# Altium footprint library PCB_SDR.PcbLib: 49 footprints (part 1 of 4)
Each footprint in its own frame and in the unit in brackets; x right, y up, seen from the top. Pads: shape width x height; smd on the part's side, far side on the other; paste and mask are expansions set on the pad; w line width, h text height; cw(c..) or ccw(c..) is an arc to the next point about the centre after c.
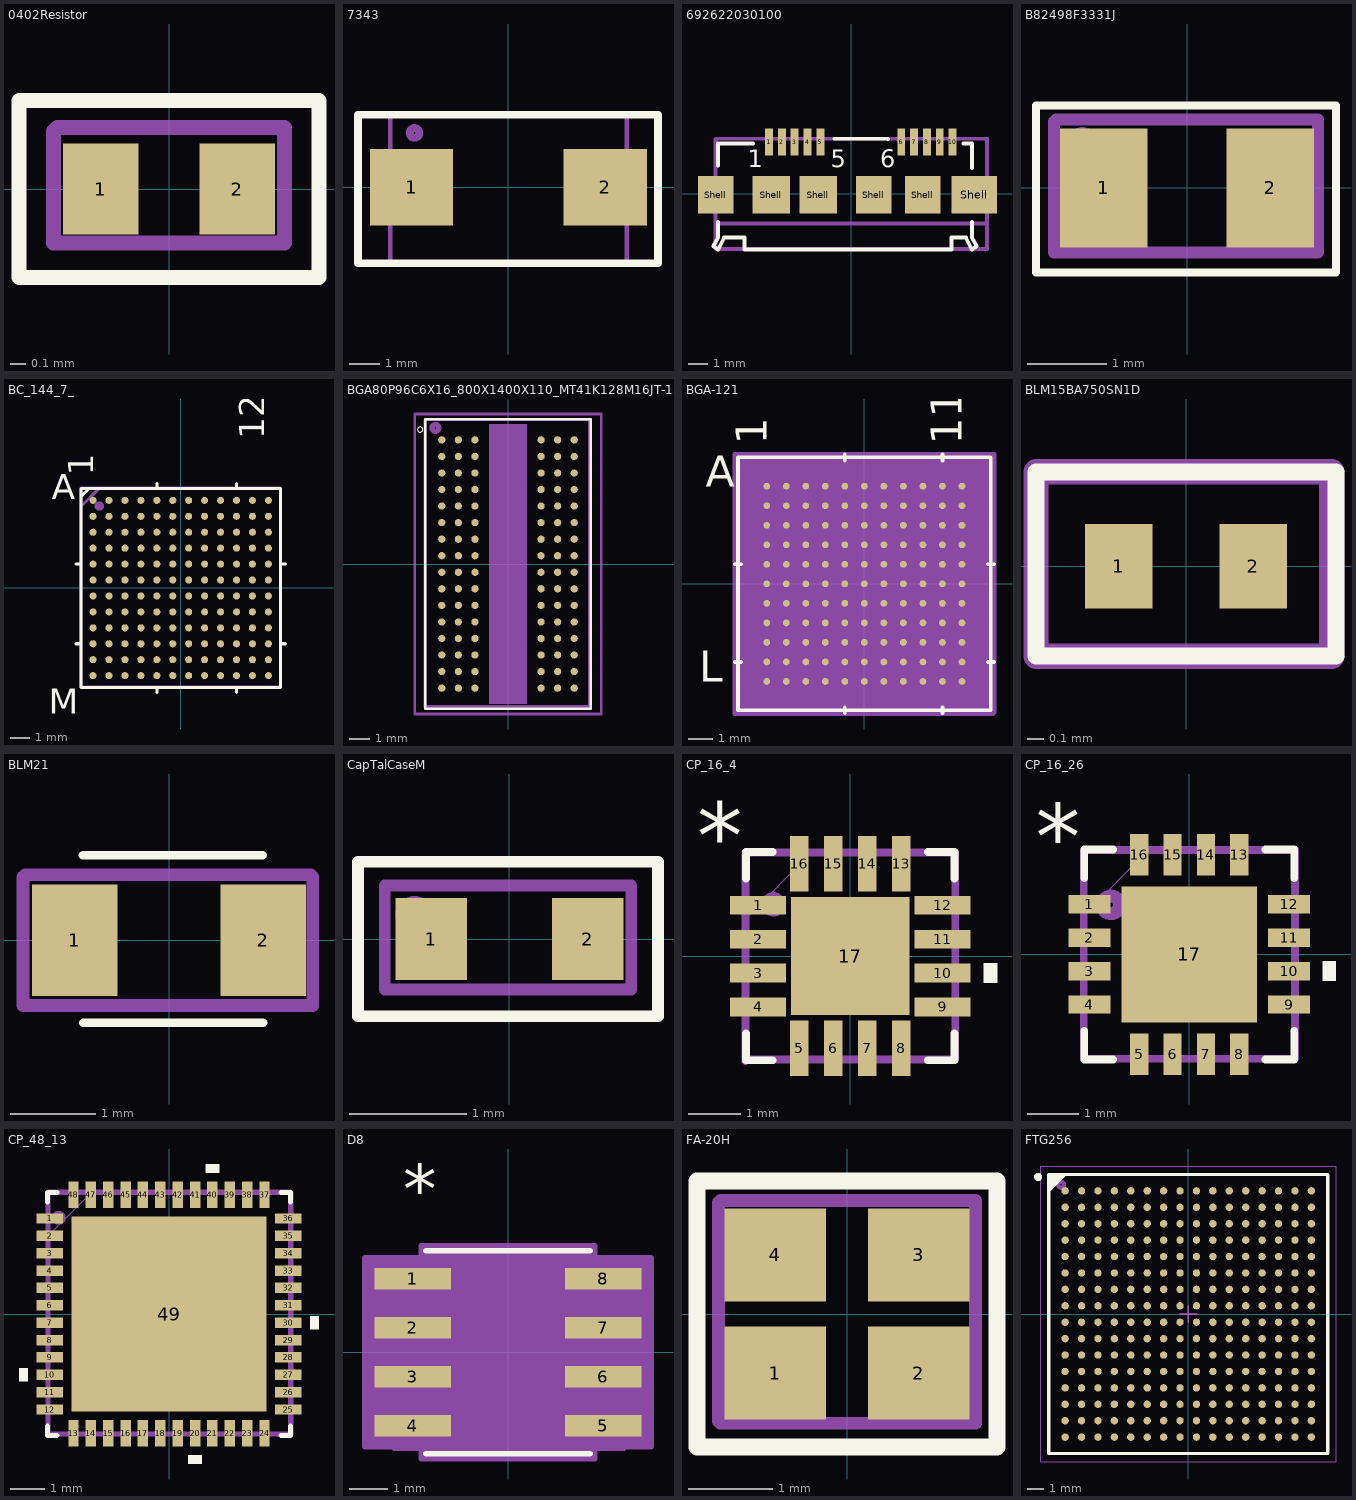
[diagram p0: the footprints below, top view; thin cyan lines are the x and y axes]

## 0402Resistor [mm]
pads (2):
  rect 0.5x0.6 smd: 1(-0.45,0) 2(0.45,0)
Top Overlay:
  lines w0.1: -0.991,-0.584 -0.991,0.584 0.991,0.584 0.991,-0.584 -0.991,-0.584
Mechanical 16:
  lines w0.1: -0.762,-0.356 -0.762,0.381 -0.737,0.406 0.762,0.406 0.762,-0.356 -0.762,-0.356
Mechanical 29:
  text ".Designator" at -0.432,-0.152 h0.51
3D body "User Library-SMD RESISTOR-10402.STEP": height 0.36, standoff 0, extent -0.5,-0.246 0.5,0.254

## 7343 [mm]
pads (2):
  rect 2.77x2.55 smd: 1(-3.22,0) 2(3.22,0)
Top Overlay:
  lines w0.254: -5.004,-2.54 -5.004,2.413 4.978,2.413 4.978,-2.54 -5.004,-2.54
Mechanical 16:
  lines w0.15: -3.937,-2.54 -3.937,2.413 3.937,2.413 3.937,-2.54 -3.937,-2.54
  lines w0.254: -2.971,1.859 ccw(c-3.124,1.803) -2.962,1.791
Mechanical 29:
  text ".Designator" at -2.362,-0.559 h1.02
3D body "T520V337M2R5ATE025.step": height 1.91, standoff 0.01, extent -3.8,-2.314 3.8,2.286

## 692622030100 [mm]
pads (16):
  rect 0.4x1.35 smd: 1(-4.17,2.63) 2(-3.52,2.63) 3(-2.87,2.63) 4(-2.22,2.63) 5(-1.57,2.63) 6(2.53,2.63) 7(3.18,2.63) 8(3.83,2.63) 9(4.48,2.63) 10(5.13,2.63)
  rect 1.8x1.9 smd: Shell(-6.87,-0.045) Shell(1.13,-0.045) Shell(3.63,-0.045)
  rect 1.9x1.9 smd: Shell(-4.07,-0.045) Shell(-1.67,-0.045)
  rect 2.3x1.9 smd: Shell(6.23,-0.045)
Top Overlay:
  lines w0.2: -6.745,-1.422 -6.745,-2.205 -6.995,-2.645 -6.745,-2.805 -6.445,-2.205 -5.405,-2.205 -5.405,-2.805 5.065,-2.805 5.065,-2.205 5.805,-2.205 6.105,-2.805 6.355,-2.645 6.105,-2.205 6.105,-1.422 ; -6.745,1.448 -6.745,2.545 -4.978,2.545 ; -0.864,2.795 1.854,2.794 ; 5.69,2.545 6.105,2.545 6.105,1.321
  text "6" at 1.455,1.345 h0.89
  text "1" at -5.245,1.345 h0.89
  text "5" at -1.045,1.345 h0.89
Mechanical 13:
  lines w0.2: -6.87,-2.795 6.88,-2.795 6.88,2.795 -6.87,2.795 -6.87,-2.795
Mechanical 15:
  lines w0.2: -6.87,-1.495 6.88,-1.495
  text "PCB Edge" at -1.82,-2.308 h0.89
Mechanical 16:
  lines w0.15: -6.909,-2.769 -6.909,2.794 6.909,2.794 6.909,-2.794 -6.883,-2.794
Mechanical 29:
  text ".Designator" at -2.946,-0.356 h1.52
3D body "692622030100.stp": height 2.84, standoff -0.11, extent -6.87,-2.795 6.872,2.807

## B82498F3331J [mm]
pads (2):
  rect 1.1x1.5 smd: 1(-1.05,0) 2(1.05,0)
Top Overlay:
  lines w0.1: -1.905,-1.067 -1.905,1.041 1.88,1.041 1.88,-1.067 -1.905,-1.067
Mechanical 16:
  lines w0.15: -1.676,-0.813 -1.676,0.838 -1.651,0.864 1.651,0.864 1.651,-0.813 -1.676,-0.813
  lines w0.254: -1.27,0.61 ccw(c-1.321,0.584) -1.265,0.595
Mechanical 29:
  text ".Designator" at -0.914,-0.33 h0.76
3D body "IND_EPCOS_B82498F.step": height 1.4, standoff 0, extent -1.156,-0.851 1.156,0.851

## BC_144_7_ [mm]
pads (144):
  round 0.356 smd: A1(-4.4,4.4) A2(-3.6,4.4) A3(-2.8,4.4) A4(-2,4.4) A5(-1.2,4.4) A6(-0.4,4.4) A7(0.4,4.4) A8(1.2,4.4) A9(2,4.4) A10(2.8,4.4) A11(3.6,4.4) A12(4.4,4.4) B1(-4.4,3.6) B2(-3.6,3.6) B3(-2.8,3.6) B4(-2,3.6) B5(-1.2,3.6) B6(-0.4,3.6) B7(0.4,3.6) B8(1.2,3.6) B9(2,3.6) B10(2.8,3.6) B11(3.6,3.6) B12(4.4,3.6) C1(-4.4,2.8) C2(-3.6,2.8) C3(-2.8,2.8) C4(-2,2.8) C5(-1.2,2.8) C6(-0.4,2.8) C7(0.4,2.8) C8(1.2,2.8) C9(2,2.8) C10(2.8,2.8) C11(3.6,2.8) C12(4.4,2.8) D1(-4.4,2) D2(-3.6,2) D3(-2.8,2) D4(-2,2) D5(-1.2,2) D6(-0.4,2) D7(0.4,2) D8(1.2,2) D9(2,2) D10(2.8,2) D11(3.6,2) D12(4.4,2) E1(-4.4,1.2) E2(-3.6,1.2) E3(-2.8,1.2) E4(-2,1.2) E5(-1.2,1.2) E6(-0.4,1.2) E7(0.4,1.2) E8(1.2,1.2) E9(2,1.2) E10(2.8,1.2) E11(3.6,1.2) E12(4.4,1.2) F1(-4.4,0.4) F2(-3.6,0.4) F3(-2.8,0.4) F4(-2,0.4) F5(-1.2,0.4) F6(-0.4,0.4) F7(0.4,0.4) F8(1.2,0.4) F9(2,0.4) F10(2.8,0.4) F11(3.6,0.4) F12(4.4,0.4) G1(-4.4,-0.4) G2(-3.6,-0.4) G3(-2.8,-0.4) G4(-2,-0.4) G5(-1.2,-0.4) G6(-0.4,-0.4) G7(0.4,-0.4) G8(1.2,-0.4) G9(2,-0.4) G10(2.8,-0.4) G11(3.6,-0.4) G12(4.4,-0.4) H1(-4.4,-1.2) H2(-3.6,-1.2) H3(-2.8,-1.2) H4(-2,-1.2) H5(-1.2,-1.2) H6(-0.4,-1.2) H7(0.4,-1.2) H8(1.2,-1.2) H9(2,-1.2) H10(2.8,-1.2) H11(3.6,-1.2) H12(4.4,-1.2) J1(-4.4,-2) J2(-3.6,-2) J3(-2.8,-2) J4(-2,-2) J5(-1.2,-2) J6(-0.4,-2) J7(0.4,-2) J8(1.2,-2) J9(2,-2) J10(2.8,-2) J11(3.6,-2) J12(4.4,-2) K1(-4.4,-2.8) K2(-3.6,-2.8) K3(-2.8,-2.8) K4(-2,-2.8) K5(-1.2,-2.8) K6(-0.4,-2.8) K7(0.4,-2.8) K8(1.2,-2.8) K9(2,-2.8) K10(2.8,-2.8) K11(3.6,-2.8) K12(4.4,-2.8) L1(-4.4,-3.6) L2(-3.6,-3.6) L3(-2.8,-3.6) L4(-2,-3.6) L5(-1.2,-3.6) L6(-0.4,-3.6) L7(0.4,-3.6) L8(1.2,-3.6) L9(2,-3.6) L10(2.8,-3.6) L11(3.6,-3.6) L12(4.4,-3.6) M1(-4.4,-4.4) M2(-3.6,-4.4) M3(-2.8,-4.4) M4(-2,-4.4) M5(-1.2,-4.4) M6(-0.4,-4.4) M7(0.4,-4.4) M8(1.2,-4.4) M9(2,-4.4) M10(2.8,-4.4) M11(3.6,-4.4) M12(4.4,-4.4)
Top Overlay:
  lines w0.152: -5.254,-2.8 -5,-2.8 ; -5.254,1.2 -5,1.2 ; -5,4.6 -4.6,5 ; -1.2,-5.254 -1.2,-5 ; -1.2,5 -1.2,5.254 ; 2.8,-5.254 2.8,-5 ; 2.8,5 2.8,5.254 ; 5,-2.8 5.254,-2.8 ; 5,1.2 5.254,1.2 ; -5,-5 -5,5 5,5 5,-5 -5,-5
  text "12" at 4.186,7.466 h1.27
  text "1" at -4.4,5.635 h1.27
  text "M" at -6.635,-6.326 h1.27
  text "A" at -6.477,4.445 h1.27
Bottom Overlay:
  text "12" at 4.237,4.748 h1.27
  text "1" at -4.4,5.635 h1.27
  text "M" at -5.796,-6.53 h1.27
  text "A" at -5.635,4.4 h1.27
Mechanical 1:
  lines w0: -5,4.6 -4.6,5 ; -5,-5 -5,5 5,5 5,-5 -5,-5
  text "12" at 4.4,5.635 h1.27
  text "1" at -4.4,5.635 h1.27
  text "M" at -6.477,-4.445 h1.27
  text "A" at -6.477,4.445 h1.27
Mechanical 16:
  circle w0.254: c-4.089,4.115 r0.108
  lines w0.15: -5.004,4.039 -5.004,4.089 -4.115,4.978 -4.115,5.029 ; -5.004,-4.978 -5.004,5.029 5.004,5.029 5.004,-4.978 -5.004,-4.978
Mechanical 29:
  text ".Designator" at -2.845,-0.254 h1.02
3D body: height 1, standoff 0, extent -5,-5 5,5

## BGA80P96C6X16_800X1400X110_MT41K128M16JT-125:K_true [mm]
pads (96):
  round 0.35 smd: A1(-3.2,6) A2(-2.4,6) A3(-1.6,6) A7(1.6,6) A8(2.4,6) A9(3.2,6) B1(-3.2,5.2) B2(-2.4,5.2) B3(-1.6,5.2) B7(1.6,5.2) B8(2.4,5.2) B9(3.2,5.2) C1(-3.2,4.4) C2(-2.4,4.4) C3(-1.6,4.4) C7(1.6,4.4) C8(2.4,4.4) C9(3.2,4.4) D1(-3.2,3.6) D2(-2.4,3.6) D3(-1.6,3.6) D7(1.6,3.6) D8(2.4,3.6) D9(3.2,3.6) E1(-3.2,2.8) E2(-2.4,2.8) E3(-1.6,2.8) E7(1.6,2.8) E8(2.4,2.8) E9(3.2,2.8) F1(-3.2,2) F2(-2.4,2) F3(-1.6,2) F7(1.6,2) F8(2.4,2) F9(3.2,2) G1(-3.2,1.2) G2(-2.4,1.2) G3(-1.6,1.2) G7(1.6,1.2) G8(2.4,1.2) G9(3.2,1.2) H1(-3.2,0.4) H2(-2.4,0.4) H3(-1.6,0.4) H7(1.6,0.4) H8(2.4,0.4) H9(3.2,0.4) J1(-3.2,-0.4) J2(-2.4,-0.4) J3(-1.6,-0.4) J7(1.6,-0.4) J8(2.4,-0.4) J9(3.2,-0.4) K1(-3.2,-1.2) K2(-2.4,-1.2) K3(-1.6,-1.2) K7(1.6,-1.2) K8(2.4,-1.2) K9(3.2,-1.2) L1(-3.2,-2) L2(-2.4,-2) L3(-1.6,-2) L7(1.6,-2) L8(2.4,-2) L9(3.2,-2) M1(-3.2,-2.8) M2(-2.4,-2.8) M3(-1.6,-2.8) M7(1.6,-2.8) M8(2.4,-2.8) M9(3.2,-2.8) N1(-3.2,-3.6) N2(-2.4,-3.6) N3(-1.6,-3.6) N7(1.6,-3.6) N8(2.4,-3.6) N9(3.2,-3.6) P1(-3.2,-4.4) P2(-2.4,-4.4) P3(-1.6,-4.4) P7(1.6,-4.4) P8(2.4,-4.4) P9(3.2,-4.4) R1(-3.2,-5.2) R2(-2.4,-5.2) R3(-1.6,-5.2) R7(1.6,-5.2) R8(2.4,-5.2) R9(3.2,-5.2) T1(-3.2,-6) T2(-2.4,-6) T3(-1.6,-6) T7(1.6,-6) T8(2.4,-6) T9(3.2,-6)
Top Overlay:
  circle w0: c-4.25,6.5 r0.127
  lines w0.127: -4,-7 4,-7 4,7 -4,7 -4,-7
Mechanical 1:
  region: -0.9,6.75 0.9,6.75 0.9,-6.75 -0.9,-6.75
  lines w0.127: -4.5,-7.25 4.5,-7.25 4.5,7.25 -4.5,7.25 -4.5,-7.25
Mechanical 16:
  lines w0.15: -4.013,-6.909 -4.013,6.96 ; -3.988,-6.883 3.962,-6.883 ; -3.988,6.985 3.937,6.985 3.937,-6.858
  lines w0.254: -3.348,6.621 ccw(c-3.505,6.579) -3.346,6.547
Mechanical 29:
  text ".Designator" at 2.123,6.156 h1.02
3D body: height 0.77, standoff 0, extent -4.5,-7.25 4.445,7.25

## BGA-121 [mil]
pads (121):
  round 11 smd: A1(-157.48,157.48) A2(-125.98,157.48) A3(-94.49,157.48) A4(-62.99,157.48) A5(-31.5,157.48) A6(0,157.48) A7(31.5,157.48) A8(62.99,157.48) A9(94.49,157.48) A10(125.98,157.48) A11(157.48,157.48) B1(-157.48,125.98) B2(-125.98,125.98) B3(-94.49,125.98) B4(-62.99,125.98) B5(-31.5,125.98) B6(0,125.98) B7(31.5,125.98) B8(62.99,125.98) B9(94.49,125.98) B10(125.98,125.98) B11(157.48,125.98) C1(-157.48,94.49) C2(-125.98,94.49) C3(-94.49,94.49) C4(-62.99,94.49) C5(-31.5,94.49) C6(0,94.49) C7(31.5,94.49) C8(62.99,94.49) C9(94.49,94.49) C10(125.98,94.49) C11(157.48,94.49) D1(-157.48,62.99) D2(-125.98,62.99) D3(-94.49,62.99) D4(-62.99,62.99) D5(-31.5,62.99) D6(0,62.99) D7(31.5,62.99) D8(62.99,62.99) D9(94.49,62.99) D10(125.98,62.99) D11(157.48,62.99) E1(-157.48,31.5) E2(-125.98,31.5) E3(-94.49,31.5) E4(-62.99,31.5) E5(-31.5,31.5) E6(0,31.5) E7(31.5,31.5) E8(62.99,31.5) E9(94.49,31.5) E10(125.98,31.5) E11(157.48,31.5) F1(-157.48,0) F2(-125.98,0) F3(-94.49,0) F4(-62.99,0) F5(-31.5,0) F6(0,0) F7(31.5,0) F8(62.99,0) F9(94.49,0) F10(125.98,0) F11(157.48,0) G1(-157.48,-31.5) G2(-125.98,-31.5) G3(-94.49,-31.5) G4(-62.99,-31.5) G5(-31.5,-31.5) G6(0,-31.5) G7(31.5,-31.5) G8(62.99,-31.5) G9(94.49,-31.5) G10(125.98,-31.5) G11(157.48,-31.5) H1(-157.48,-62.99) H2(-125.98,-62.99) H3(-94.49,-62.99) H4(-62.99,-62.99) H5(-31.5,-62.99) H6(0,-62.99) H7(31.5,-62.99) H8(62.99,-62.99) H9(94.49,-62.99) H10(125.98,-62.99) H11(157.48,-62.99) J1(-157.48,-94.49) J2(-125.98,-94.49) J3(-94.49,-94.49) J4(-62.99,-94.49) J5(-31.5,-94.49) J6(0,-94.49) J7(31.5,-94.49) J8(62.99,-94.49) J9(94.49,-94.49) J10(125.98,-94.49) J11(157.48,-94.49) K1(-157.48,-125.98) K2(-125.98,-125.98) K3(-94.49,-125.98) K4(-62.99,-125.98) K5(-31.5,-125.98) K6(0,-125.98) K7(31.5,-125.98) K8(62.99,-125.98) K9(94.49,-125.98) K10(125.98,-125.98) K11(157.48,-125.98) L1(-157.48,-157.48) L2(-125.98,-157.48) L3(-94.49,-157.48) L4(-62.99,-157.48) L5(-31.5,-157.48) L6(0,-157.48) L7(31.5,-157.48) L8(62.99,-157.48) L9(94.49,-157.48) L10(125.98,-157.48) L11(157.48,-157.48)
Top Overlay:
  lines w6: -209,-125.98 -199,-125.98 ; -209,31.5 -199,31.5 ; -31.5,-209 -31.5,-199 ; -31.5,199 -31.5,209 ; 125.98,-209 125.98,-199 ; 125.98,199 125.98,209 ; 199,-125.98 209,-125.98 ; 199,31.5 209,31.5 ; -204,-204 -204,204 204,204 204,-204 -204,-204
  text "11" at 157.48,224 h50
  text "1" at -157.48,224 h50
  text "L" at -266,-158 h50
  text "A" at -256,157 h50
Bottom Overlay:
  text "11" at 204.96,402.76 h50
  text "1" at -132.04,310.76 h50
  text "L" at -241.04,-213.24 h50
  text "A" at -190.04,277.76 h50
Mechanical 13:
  text "11" at 157.48,224 h50
  text "1" at -157.48,224 h50
  text "L" at -265,-159 h50
  text "A" at -256,159 h50
Mechanical 15:
  region: 209,-209 -209,-209 -209,209 209,209
  lines w6: -209,-209 209,-209 209,209 -209,209 -209,-209
Mechanical 16:
  circle w10: c-185,190 r3.16
  lines w5.91: 208,-210 -210,-210 -210,210 210,210 210,-208
Mechanical 29:
  text ".Designator" at -106,-3 h40
3D body: height 39.37, standoff 0, extent -204,-204 205,204

## BLM15BA750SN1D [mm]
pads (2):
  rect 0.4x0.5 smd: 1(-0.4,0) 2(0.4,0)
Top Overlay:
  lines w0.1: -0.889,-0.533 -0.889,0.559 0.889,0.559 0.889,-0.533 -0.889,-0.533
Mechanical 16:
  lines w0.15: -0.889,-0.533 0.864,-0.533 0.864,0.559 -0.889,0.559 -0.889,-0.533
Mechanical 29:
  text ".Designator" at -0.66,-0.102 h0.51

## BLM21 [mm]
pads (2):
  rect 1x1.3 smd: 1(-1.1,0) 2(1.1,0)
Top Overlay:
  lines w0.1: -1.008,0.991 1.092,0.991 ; -1,-0.965 1.1,-0.965
Mechanical 16:
  lines w0.15: -1.702,0.737 -1.702,-0.762 1.676,-0.762 1.676,0.737 ; -1.676,0.762 1.651,0.762
  lines w0.254: -1.349,0.494 ccw(c-1.372,0.483) -1.346,0.483
Mechanical 29:
  text ".Designator" at -1.118,-0.305 h0.51
3D body "User Library-ind_0805.STEP": height 0.95, standoff 0, extent -1,-0.6 1,0.6

## CapTalCaseM [mm]
pads (2):
  rect 0.61x0.7 smd: 1(-0.67,0) 2(0.67,0)
Top Overlay:
  lines w0.1: -1.295,-0.66 -1.295,0.66 1.27,0.66 1.27,-0.66 -1.295,-0.66
Mechanical 16:
  lines w0.1: -1.067,-0.432 -1.067,0.457 1.041,0.457 1.041,-0.432 -1.067,-0.432
  lines w0.254: -0.777,0.203 cw(c-0.813,0.203) -0.778,0.21
Mechanical 29:
  text ".Designator" at -0.66,-0.178 h0.51
3D body "CAP_298D_M.step": height 0.89, standoff 0, extent -0.851,-0.47 0.851,0.47

## CP_16_4 [mil]
pads (17):
  rect 42x14 smd mask+4: 1(-69.5,38.39) 2(-69.5,12.8) 3(-69.5,-12.8) 4(-69.5,-38.39) 9(69.5,-38.39) 10(69.5,-12.8) 11(69.5,12.8) 12(69.5,38.39)
  rect 14x42 smd mask+4: 5(-38.39,-69.5) 6(-12.8,-69.5) 7(12.8,-69.5) 8(38.39,-69.5) 13(38.39,69.5) 14(12.8,69.5) 15(-12.8,69.5) 16(-38.39,69.5)
  rect 89x89 smd mask-44: 17(0,0)
Top Overlay:
  region: 100.5,-5.3 110.5,-5.3 110.5,-20.3 100.5,-20.3
  lines w6: -78.5,-58.49 -78.5,-78.5 -58.49,-78.5 ; -78.5,58.49 -78.5,78.5 -58.49,78.5 ; 58.49,-78.5 78.5,-78.5 78.5,-58.49 ; 58.49,78.5 78.5,78.5 78.5,58.49
  text "*" at -115.5,66.18 h50
Mechanical 1:
  lines w0: -78.5,28.5 -28.5,78.5 ; -78.5,-78.5 78.5,-78.5 78.5,78.5 -78.5,78.5 -78.5,-78.5 ; -78.5,-45.39 -78.5,-31.39 -78.5,-45.39 ; -78.5,-19.8 -78.5,-5.8 -78.5,-19.8 ; -78.5,5.8 -78.5,19.8 -78.5,5.8 ; -78.5,31.39 -78.5,45.39 -78.5,31.39 ; -45.39,-78.5 -31.39,-78.5 -45.39,-78.5 ; -45.39,78.5 -31.39,78.5 -45.39,78.5 ; -19.8,-78.5 -5.8,-78.5 -19.8,-78.5 ; -19.8,78.5 -5.8,78.5 -19.8,78.5 ; 5.8,-78.5 19.8,-78.5 5.8,-78.5 ; 5.8,78.5 19.8,78.5 5.8,78.5 ; 31.39,-78.5 45.39,-78.5 31.39,-78.5 ; 31.39,78.5 45.39,78.5 31.39,78.5 ; 78.5,-45.39 78.5,-31.39 78.5,-45.39 ; 78.5,-19.8 78.5,-5.8 78.5,-19.8 ; 78.5,5.8 78.5,19.8 78.5,5.8 ; 78.5,31.39 78.5,45.39 78.5,31.39
  text "*" at -115.5,66.18 h50
Mechanical 16:
  lines w5.91: -79,-79 -79,78 79,78 79,-77 ; -78,-78 78,-78
  lines w10: -54,38 cw(c-58,39) -53.91,39.51
Mechanical 29:
  text ".Designator" at -49,-23 h40
3D body: height 31.5, standoff 0, extent -78.5,-78.5 78.5,78.5

## CP_16_26 [mil]
pads (17):
  rect 32x14 smd mask+4: 1(-76.5,38.39) 2(-76.5,12.8) 3(-76.5,-12.8) 4(-76.5,-38.39) 9(76.5,-38.39) 10(76.5,-12.8) 11(76.5,12.8) 12(76.5,38.39)
  rect 14x32 smd mask+4: 5(-38.39,-76.5) 6(-12.8,-76.5) 7(12.8,-76.5) 8(38.39,-76.5) 13(38.39,76.5) 14(12.8,76.5) 15(-12.8,76.5) 16(-38.39,76.5)
  rect 104x104 smd mask-51.5: 17(0,0)
Top Overlay:
  region: 102.5,-5.3 112.5,-5.3 112.5,-20.3 102.5,-20.3
  lines w6: -80.5,-58.49 -80.5,-80.5 -58.49,-80.5 ; -80.5,58.49 -80.5,80.5 -58.49,80.5 ; 58.49,-80.5 80.5,-80.5 80.5,-58.49 ; 58.49,80.5 80.5,80.5 80.5,58.49
  text "*" at -117.5,66.18 h50
Mechanical 1:
  lines w0: -80.5,30.5 -30.5,80.5 ; -80.5,-80.5 -80.5,80.5 80.5,80.5 80.5,-80.5 -80.5,-80.5 ; -80.5,-45.39 -80.5,-31.39 -80.5,-45.39 ; -80.5,-19.8 -80.5,-5.8 -80.5,-19.8 ; -80.5,5.8 -80.5,19.8 -80.5,5.8 ; -80.5,31.39 -80.5,45.39 -80.5,31.39 ; -45.39,-80.5 -31.39,-80.5 -45.39,-80.5 ; -45.39,80.5 -31.39,80.5 -45.39,80.5 ; -19.8,-80.5 -5.8,-80.5 -19.8,-80.5 ; -19.8,80.5 -5.8,80.5 -19.8,80.5 ; 5.8,-80.5 19.8,-80.5 5.8,-80.5 ; 5.8,80.5 19.8,80.5 5.8,80.5 ; 31.39,-80.5 45.39,-80.5 31.39,-80.5 ; 31.39,80.5 45.39,80.5 31.39,80.5 ; 80.5,-45.39 80.5,-31.39 80.5,-45.39 ; 80.5,-19.8 80.5,-5.8 80.5,-19.8 ; 80.5,5.8 80.5,19.8 80.5,5.8 ; 80.5,31.39 80.5,45.39 80.5,31.39
  text "*" at -117.5,66.18 h50
Mechanical 16:
  lines w5.91: -81,79 -81,-80 81,-80 81,80 -80,80
  lines w10: -53.64,40.12 ccw(c-60,38) -53.38,39.1
Mechanical 29:
  text ".Designator" at -54,-18 h40
3D body: height 31.5, standoff 0, extent -80.5,-80.5 80.5,80.5

## CP_48_13 [mm]
pads (49):
  rect 0.755x0.3 smd: 1(-3.433,2.75) 2(-3.433,2.25) 3(-3.433,1.75) 4(-3.433,1.25) 5(-3.433,0.75) 6(-3.433,0.25) 7(-3.433,-0.25) 8(-3.433,-0.75) 9(-3.433,-1.25) 10(-3.433,-1.75) 11(-3.433,-2.25) 12(-3.433,-2.75) 25(3.433,-2.75) 26(3.433,-2.25) 27(3.433,-1.75) 28(3.433,-1.25) 29(3.433,-0.75) 30(3.433,-0.25) 31(3.433,0.25) 32(3.433,0.75) 33(3.433,1.25) 34(3.433,1.75) 35(3.433,2.25) 36(3.433,2.75)
  rect 0.3x0.755 smd: 13(-2.75,-3.433) 14(-2.25,-3.433) 15(-1.75,-3.433) 16(-1.25,-3.433) 17(-0.75,-3.433) 18(-0.25,-3.433) 19(0.25,-3.433) 20(0.75,-3.433) 21(1.25,-3.433) 22(1.75,-3.433) 23(2.25,-3.433) 24(2.75,-3.433) 37(2.75,3.433) 38(2.25,3.433) 39(1.75,3.433) 40(1.25,3.433) 41(0.75,3.433) 42(0.25,3.433) 43(-0.25,3.433) 44(-0.75,3.433) 45(-1.25,3.433) 46(-1.75,3.433) 47(-2.25,3.433) 48(-2.75,3.433)
  rect 5.6x5.6 smd mask-2.781: 49(0,0)
Top Overlay:
  region: -4.064,-1.559 -4.318,-1.559 -4.318,-1.94 -4.064,-1.94
  region: 0.941,-4.064 0.56,-4.064 0.56,-4.318 0.941,-4.318
  region: 4.064,-0.059 4.318,-0.059 4.318,-0.44 4.064,-0.44
  region: 1.441,4.064 1.06,4.064 1.06,4.318 1.441,4.318
  lines w0.152: -3.5,-3.233 -3.5,-3.5 -3.233,-3.5 ; -3.5,3.233 -3.5,3.5 -3.233,3.5 ; 3.233,-3.5 3.5,-3.5 3.5,-3.233 ; 3.233,3.5 3.5,3.5 3.5,3.233
Mechanical 1:
  drawing of 197 lines, arcs and shapes, not listed
  text "*" at -4.445,3.381 h1.27
Mechanical 16:
  lines w0.15: 3.48,3.505 -3.454,3.505 -3.48,3.48 -3.48,-3.454 3.505,-3.454 3.505,3.48
  lines w0.254: -3.105,2.755 cw(c-3.175,2.769) -3.103,2.769
Mechanical 29:
  text ".Designator" at -1.981,-0.432 h1.02
3D body: height 0.8, standoff 0, extent -3.522,-3.5 3.5,3.516

## D8 [mil]
pads (8):
  rect 78x22 smd: 1(-97,75) 2(-97,25) 3(-97,-25) 4(-97,-75) 5(97,-75) 6(97,-25) 7(97,25) 8(97,75)
Top Overlay:
  lines w6: -83.5,-103.5 83.5,-103.5 ; -83.5,103.5 83.5,103.5
  text "*" at -107,142 h50
Mechanical 13:
  lines w0: -12,98.5 ccw(c0,98.5) 12,98.5
Mechanical 15:
  region: -88.5,-96 -146,-96 -146,96 -88.5,96 -88.5,108.5 88.5,108.5 88.5,96 146,96 146,-96 88.5,-96 88.5,-108.5 -88.5,-108.5
  lines w6: -146,-96 -88.5,-96 -88.5,-108.5 88.5,-108.5 88.5,-96 146,-96 146,96 88.5,96 88.5,108.5 -88.5,108.5 -88.5,96 -146,96 -146,-96
Mechanical 16:
  lines w5.91: -116,-98 118,-98 118,96 -115,96 -116,95 -116,-98
  lines w10: -78.36,73.36 cw(c-86,75) -78.19,75
Mechanical 29:
  text ".Designator" at -59,-15 h40
3D body "User Library-SOIC-8-1.STEP": height 68.9, standoff 0, extent -118.1,-96.46 118.12,96.46
3D body: height 10, standoff 0, extent 0,0 10,10

## FA-20H [mm]
pads (4):
  rect 1.2x1.1 smd: 1(-0.85,-0.7) 2(0.85,-0.7) 3(0.85,0.7) 4(-0.85,0.7)
Top Overlay:
  lines w0.2: -1.778,-1.575 -1.778,1.575 1.778,1.575 1.778,-1.575 -1.778,-1.575
Mechanical 16:
  lines w0.15: -1.524,-1.27 -1.499,-1.295 1.524,-1.295 1.524,1.346 -1.499,1.346 -1.524,1.321 -1.524,-1.27
  lines w0.254: -1.151,-0.968 ccw(c-1.219,-0.991) -1.147,-0.991
Mechanical 29:
  text ".Designator" at -0.406,-0.254 h1.02
3D body "User Library-Crystal NDK NX2520SA series.STEP": height 0.55, standoff 0, extent -1.3,-1.05 1.3,1.05

## FTG256 [mm]
pads (256):
  round 0.45 smd: A1(-7.5,7.5) A2(-6.5,7.5) A3(-5.5,7.5) A4(-4.5,7.5) A5(-3.5,7.5) A6(-2.5,7.5) A7(-1.5,7.5) A8(-0.5,7.5) A9(0.5,7.5) A10(1.5,7.5) A11(2.5,7.5) A12(3.5,7.5) A13(4.5,7.5) A14(5.5,7.5) A15(6.5,7.5) A16(7.5,7.5) B1(-7.5,6.5) B2(-6.5,6.5) B3(-5.5,6.5) B4(-4.5,6.5) B5(-3.5,6.5) B6(-2.5,6.5) B7(-1.5,6.5) B8(-0.5,6.5) B9(0.5,6.5) B10(1.5,6.5) B11(2.5,6.5) B12(3.5,6.5) B13(4.5,6.5) B14(5.5,6.5) B15(6.5,6.5) B16(7.5,6.5) C1(-7.5,5.5) C2(-6.5,5.5) C3(-5.5,5.5) C4(-4.5,5.5) C5(-3.5,5.5) C6(-2.5,5.5) C7(-1.5,5.5) C8(-0.5,5.5) C9(0.5,5.5) C10(1.5,5.5) C11(2.5,5.5) C12(3.5,5.5) C13(4.5,5.5) C14(5.5,5.5) C15(6.5,5.5) C16(7.5,5.5) D1(-7.5,4.5) D2(-6.5,4.5) D3(-5.5,4.5) D4(-4.5,4.5) D5(-3.5,4.5) D6(-2.5,4.5) D7(-1.5,4.5) D8(-0.5,4.5) D9(0.5,4.5) D10(1.5,4.5) D11(2.5,4.5) D12(3.5,4.5) D13(4.5,4.5) D14(5.5,4.5) D15(6.5,4.5) D16(7.5,4.5) E1(-7.5,3.5) E2(-6.5,3.5) E3(-5.5,3.5) E4(-4.5,3.5) E5(-3.5,3.5) E6(-2.5,3.5) E7(-1.5,3.5) E8(-0.5,3.5) E9(0.5,3.5) E10(1.5,3.5) E11(2.5,3.5) E12(3.5,3.5) E13(4.5,3.5) E14(5.5,3.5) E15(6.5,3.5) E16(7.5,3.5) F1(-7.5,2.5) F2(-6.5,2.5) F3(-5.5,2.5) F4(-4.5,2.5) F5(-3.5,2.5) F6(-2.5,2.5) F7(-1.5,2.5) F8(-0.5,2.5) F9(0.5,2.5) F10(1.5,2.5) F11(2.5,2.5) F12(3.5,2.5) F13(4.5,2.5) F14(5.5,2.5) F15(6.5,2.5) F16(7.5,2.5) G1(-7.5,1.5) G2(-6.5,1.5) G3(-5.5,1.5) G4(-4.5,1.5) G5(-3.5,1.5) G6(-2.5,1.5) G7(-1.5,1.5) G8(-0.5,1.5) G9(0.5,1.5) G10(1.5,1.5) G11(2.5,1.5) G12(3.5,1.5) G13(4.5,1.5) G14(5.5,1.5) G15(6.5,1.5) G16(7.5,1.5) H1(-7.5,0.5) H2(-6.5,0.5) H3(-5.5,0.5) H4(-4.5,0.5) H5(-3.5,0.5) H6(-2.5,0.5) H7(-1.5,0.5) H8(-0.5,0.5) H9(0.5,0.5) H10(1.5,0.5) H11(2.5,0.5) H12(3.5,0.5) H13(4.5,0.5) H14(5.5,0.5) H15(6.5,0.5) H16(7.5,0.5) J1(-7.5,-0.5) J2(-6.5,-0.5) J3(-5.5,-0.5) J4(-4.5,-0.5) J5(-3.5,-0.5) J6(-2.5,-0.5) J7(-1.5,-0.5) J8(-0.5,-0.5) J9(0.5,-0.5) J10(1.5,-0.5) J11(2.5,-0.5) J12(3.5,-0.5) J13(4.5,-0.5) J14(5.5,-0.5) J15(6.5,-0.5) J16(7.5,-0.5) K1(-7.5,-1.5) K2(-6.5,-1.5) K3(-5.5,-1.5) K4(-4.5,-1.5) K5(-3.5,-1.5) K6(-2.5,-1.5) K7(-1.5,-1.5) K8(-0.5,-1.5) K9(0.5,-1.5) K10(1.5,-1.5) K11(2.5,-1.5) K12(3.5,-1.5) K13(4.5,-1.5) K14(5.5,-1.5) K15(6.5,-1.5) K16(7.5,-1.5) L1(-7.5,-2.5) L2(-6.5,-2.5) L3(-5.5,-2.5) L4(-4.5,-2.5) L5(-3.5,-2.5) L6(-2.5,-2.5) L7(-1.5,-2.5) L8(-0.5,-2.5) L9(0.5,-2.5) L10(1.5,-2.5) L11(2.5,-2.5) L12(3.5,-2.5) L13(4.5,-2.5) L14(5.5,-2.5) L15(6.5,-2.5) L16(7.5,-2.5) M1(-7.5,-3.5) M2(-6.5,-3.5) M3(-5.5,-3.5) M4(-4.5,-3.5) M5(-3.5,-3.5) M6(-2.5,-3.5) M7(-1.5,-3.5) M8(-0.5,-3.5) M9(0.5,-3.5) M10(1.5,-3.5) M11(2.5,-3.5) M12(3.5,-3.5) M13(4.5,-3.5) M14(5.5,-3.5) M15(6.5,-3.5) M16(7.5,-3.5) N1(-7.5,-4.5) N2(-6.5,-4.5) N3(-5.5,-4.5) N4(-4.5,-4.5) N5(-3.5,-4.5) N6(-2.5,-4.5) N7(-1.5,-4.5) N8(-0.5,-4.5) N9(0.5,-4.5) N10(1.5,-4.5) N11(2.5,-4.5) N12(3.5,-4.5) N13(4.5,-4.5) N14(5.5,-4.5) N15(6.5,-4.5) N16(7.5,-4.5) P1(-7.5,-5.5) P2(-6.5,-5.5) P3(-5.5,-5.5) P4(-4.5,-5.5) P5(-3.5,-5.5) P6(-2.5,-5.5) P7(-1.5,-5.5) P8(-0.5,-5.5) P9(0.5,-5.5) P10(1.5,-5.5) P11(2.5,-5.5) P12(3.5,-5.5) P13(4.5,-5.5) P14(5.5,-5.5) P15(6.5,-5.5) P16(7.5,-5.5) R1(-7.5,-6.5) R2(-6.5,-6.5) R3(-5.5,-6.5) R4(-4.5,-6.5) R5(-3.5,-6.5) R6(-2.5,-6.5) R7(-1.5,-6.5) R8(-0.5,-6.5) R9(0.5,-6.5) R10(1.5,-6.5) R11(2.5,-6.5) R12(3.5,-6.5) R13(4.5,-6.5) R14(5.5,-6.5) R15(6.5,-6.5) R16(7.5,-6.5) T1(-7.5,-7.5) T2(-6.5,-7.5) T3(-5.5,-7.5) T4(-4.5,-7.5) T5(-3.5,-7.5) T6(-2.5,-7.5) T7(-1.5,-7.5) T8(-0.5,-7.5) T9(0.5,-7.5) T10(1.5,-7.5) T11(2.5,-7.5) T12(3.5,-7.5) T13(4.5,-7.5) T14(5.5,-7.5) T15(6.5,-7.5) T16(7.5,-7.5)
Top Overlay:
  circle w0.25: c-9.15,8.35 r0.125
  region: -7.5,8.5 -8.5,7.5 -8.5,8.5
  lines w0.2: -8.5,7.5 -7.5,8.5 ; -8.5,-8.5 -8.5,8.5 8.5,8.5 8.5,-8.5 -8.5,-8.5
Mechanical 13:
  lines w0.1: -8.5,-8.5 -8.5,8.5 8.5,8.5 8.5,-8.5 -8.5,-8.5
Mechanical 15:
  lines w0.05: -9,-9 -9,9 9,9 9,-9 -9,-9
  lines w0.1: -0.5,0 0.5,0 ; 0,-0.5 0,0.5
Mechanical 16:
  lines w0.15: -8.509,-8.509 -8.509,8.509 8.509,8.509 8.509,-8.509 -8.509,-8.509
  lines w0.254: -7.577,7.817 cw(c-7.747,7.874) -7.567,7.874
Mechanical 29:
  text ".Designator" at -4.826,0.127 h1.02
3D body: height 1.55, standoff 0.3, extent -8.5,-8.5 8.5,8.5